# EAGLE library part 7-SEGMENT-CLK-DISPLAY (library Orlando)
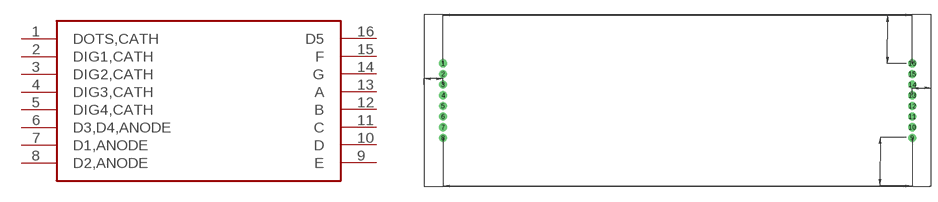
[diagram p14: symbol with the pads of 7-SEGMENT-CLK-DISPLAY; footprint 7-SEGMENT-CLK-DISPLAY]

Designator prefix -

## 7-SEGMENT-CLK-DISPLAY  [7-SEGMENT-CLK-DISPLAY]
1  DOTS,CATH
2  DIG1,CATH
3  DIG2,CATH
4  DIG3,CATH
5  DIG4,CATH
6  D3,D4,ANODE
7  D1,ANODE
8  D2,ANODE
9  E
10  D
11  C
12  B
13  A
14  G
15  F
16  D5

## Footprint 7-SEGMENT-CLK-DISPLAY (pad centres in mm)
drill 1 pad 1.93: 1 -58.42,7.62; 2 -58.42,5.08; 3 -58.42,2.54; 4 -58.42,0; 5 -58.42,-2.54; 6 -58.42,-5.08; 7 -58.42,-7.62; 8 -58.42,-10.16; 9 53.34,-10.16; 10 53.34,-7.62; 11 53.34,-5.08; 12 53.34,-2.54; 13 53.34,0; 14 53.34,2.54; 15 53.34,5.08; 16 53.34,7.62